# Altium schematic symbol library UF4007.SchLib: 1 symbol
Pins are listed as number, name and electrical type; pins without a type are passive.

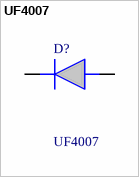
[diagram p0: symbol UF4007]

## UF4007
designator D?
High current capability; High reliability ; Low forward voltage drop ; High surge current capability; Manufacturer_Name: onsemi; Mouser Part Number: 512-UF4007; Mouser Price/Stock: https://www.mouser.co.uk/ProductDetail/onsemi-Fairchild/UF4007?qs=NwIfwa72FlplAHiXupLMBA%3D%3D; Manufacturer_Part_Number: UF4007; Datasheet Link: https://www.onsemi.com/pub/Collateral/UF4007-D.pdf
footprint DIOAD1413W86L463D238
pins: 1 K, 2 A